# Altium footprint library SnapEDApcb.PcbLib: 1 footprints
Each footprint in its own frame and in the unit in brackets; x right, y up, seen from the top. Pads: shape width x height; smd on the part's side, far side on the other; paste and mask are expansions set on the pad; w line width, h text height; cw(c..) or ccw(c..) is an arc to the next point about the centre after c.
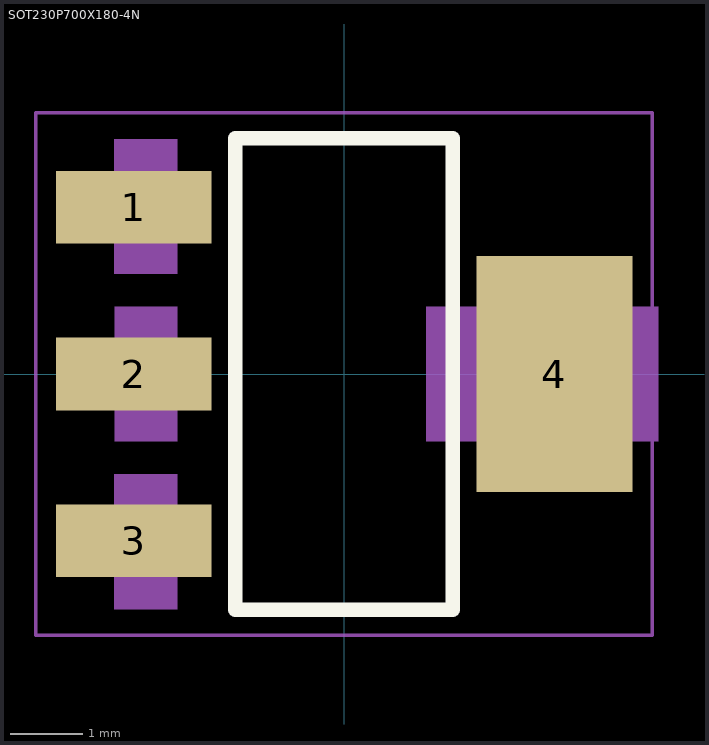
[diagram p0: the footprint, top view; thin cyan lines are the x and y axes]

## SOT230P700X180-4N [mm]
pads (4):
  rect 2.15x1 smd: 1(-2.9,2.3) 2(-2.9,0) 3(-2.9,-2.3)
  rect 2.15x3.25 smd: 4(2.9,0)
Top Overlay:
  lines w0.203: -1.5,-3.25 -1.5,3.25 1.5,3.25 1.5,-3.25 -1.5,-3.25
Mechanical 13:
  region: -2.299,-3.241 -3.165,-3.241 -3.165,-1.384 -2.299,-1.384
  region: -2.299,1.387 -3.167,1.387 -3.167,3.238 -2.299,3.238
  region: -2.299,-0.928 -3.164,-0.928 -3.164,0.927 -2.299,0.927
  region: 4.331,-0.929 1.132,-0.929 1.132,0.927 4.331,0.927
  region: -2.299,-3.242 -3.165,-3.242 -3.165,-1.384 -2.299,-1.384
  region: -2.299,1.386 -3.166,1.386 -3.166,3.238 -2.299,3.238
  region: -2.299,-0.927 -3.164,-0.927 -3.164,0.927 -2.299,0.927
  region: 4.331,-0.929 1.132,-0.929 1.132,0.927 4.331,0.927
Mechanical 15:
  lines w0.05: -4.25,-3.6 -4.25,3.6 4.25,3.6 4.25,-3.6 -4.25,-3.6
3D body "ncp1117st50t3g.stp": height 1.68, standoff 0, extent -3.475,-3.25 3.525,3.25